# Altium integrated library 7443330820.IntLib: 47 symbols
Pins are listed as number, name and electrical type; pins without a type are passive.

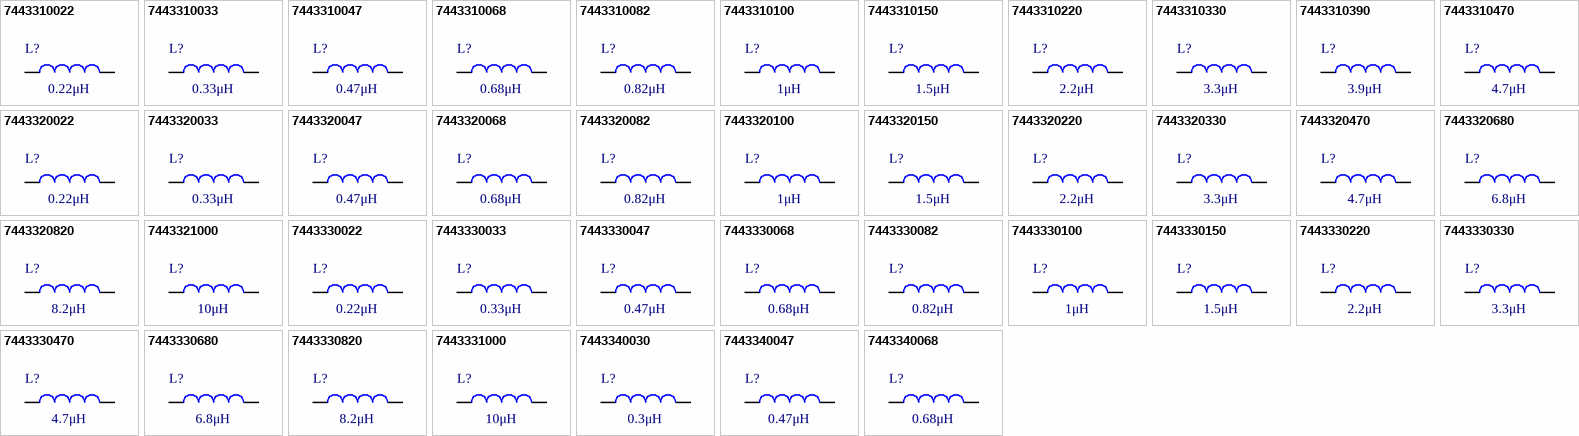
[diagram p0: symbols 7443310022 to 7443340068]

## 7443310022
designator L?, comment 0.22μH
WE-HCC SMT High Current Cube Inductor, size 1210, 0.22μH, 48.2A, 1.5mΩ; Manufacturer Part Number: 7443310022; Manufacturer: Wurth Elektronik; Case/Size Code: 1210; Material: Iron Powder; Rated Inductance: 0.21μH; Saturation Current @ 10%: 49.7A; Saturation Current @ 30%: 177.2A; Self Resonant Frequency: 210MHz; Category: Power Inductors; Match Code: WE-HCC; ComponentLink1Description: Website Link; ComponentLink1URL: https://www.we-online.com/redexpert/article/7443310022?ad; ComponentLink2Description: Datasheet Link; ComponentLink2URL: https://www.we-online.com/redexpert/spec/7443310022?ad; Mount: Surface Mount; Min Operating Temperature: -40°C; Max Operating Temperature: 125°C; Packaging: Tape and Reel; Length: 12.1mm; Width: 11.4mm; Height: 9.5mm; DC Resistance Max: 1.5mΩ; Inductance: 0.22μH; Performance Rated Current: 48.2A
footprint WE-HCC_1210
simulation model 1210_7443310022_0.22u
pins: 1, 2

## 7443310033
designator L?, comment 0.33μH
WE-HCC SMT High Current Cube Inductor, size 1210, 0.33μH, 48.2A, 1.5mΩ; Manufacturer Part Number: 7443310033; Manufacturer: Wurth Elektronik; Case/Size Code: 1210; Material: Iron Powder; Rated Inductance: 0.32μH; Saturation Current @ 10%: 43.6A; Saturation Current @ 30%: 115.4A; Self Resonant Frequency: 190MHz; Category: Power Inductors; Match Code: WE-HCC; ComponentLink1Description: Website Link; ComponentLink1URL: https://www.we-online.com/redexpert/article/7443310033?ad; ComponentLink2Description: Datasheet Link; ComponentLink2URL: https://www.we-online.com/redexpert/spec/7443310033?ad; Mount: Surface Mount; Min Operating Temperature: -40°C; Max Operating Temperature: 125°C; Packaging: Tape and Reel; Length: 12.1mm; Width: 11.4mm; Height: 9.5mm; DC Resistance Max: 1.5mΩ; Inductance: 0.33μH; Performance Rated Current: 48.2A
footprint WE-HCC_1210
simulation model 1210_7443310033_0.33u
pins: 1, 2

## 7443310047
designator L?, comment 0.47μH
WE-HCC SMT High Current Cube Inductor, size 1210, 0.47μH, 40.2A, 1.85mΩ; Manufacturer Part Number: 7443310047; Manufacturer: Wurth Elektronik; Case/Size Code: 1210; Material: Iron Powder; Rated Inductance: 0.46μH; Saturation Current @ 10%: 44.4A; Saturation Current @ 30%: 116.2A; Self Resonant Frequency: 140MHz; Category: Power Inductors; Match Code: WE-HCC; ComponentLink1Description: Website Link; ComponentLink1URL: https://www.we-online.com/redexpert/article/7443310047?ad; ComponentLink2Description: Datasheet Link; ComponentLink2URL: https://www.we-online.com/redexpert/spec/7443310047?ad; Mount: Surface Mount; Min Operating Temperature: -40°C; Max Operating Temperature: 125°C; Packaging: Tape and Reel; Length: 12.1mm; Width: 11.4mm; Height: 9.5mm; DC Resistance Max: 1.85mΩ; Inductance: 0.47μH; Performance Rated Current: 40.2A
footprint WE-HCC_1210
simulation model 1210_7443310047_0.47u
pins: 1, 2

## 7443310068
designator L?, comment 0.68μH
WE-HCC SMT High Current Cube Inductor, size 1210, 0.68μH, 40.2A, 1.85mΩ; Manufacturer Part Number: 7443310068; Manufacturer: Wurth Elektronik; Case/Size Code: 1210; Material: Iron Powder; Rated Inductance: 0.66μH; Saturation Current @ 10%: 39.3A; Saturation Current @ 30%: 63.5A; Self Resonant Frequency: 120MHz; Category: Power Inductors; Match Code: WE-HCC; ComponentLink1Description: Website Link; ComponentLink1URL: https://www.we-online.com/redexpert/article/7443310068?ad; ComponentLink2Description: Datasheet Link; ComponentLink2URL: https://www.we-online.com/redexpert/spec/7443310068?ad; Mount: Surface Mount; Min Operating Temperature: -40°C; Max Operating Temperature: 125°C; Packaging: Tape and Reel; Length: 12.1mm; Width: 11.4mm; Height: 9.5mm; DC Resistance Max: 1.85mΩ; Inductance: 0.68μH; Performance Rated Current: 40.2A
footprint WE-HCC_1210
simulation model 1210_7443310068_0.68u
pins: 1, 2

## 7443310082
designator L?, comment 0.82μH
WE-HCC SMT High Current Cube Inductor, size 1210, 0.82μH, 32.5A, 2.5mΩ; Manufacturer Part Number: 7443310082; Manufacturer: Wurth Elektronik; Case/Size Code: 1210; Material: Iron Powder; Rated Inductance: 0.78μH; Saturation Current @ 10%: 33.8A; Saturation Current @ 30%: 67.8A; Self Resonant Frequency: 100MHz; Category: Power Inductors; Match Code: WE-HCC; ComponentLink1Description: Website Link; ComponentLink1URL: https://www.we-online.com/redexpert/article/7443310082?ad; ComponentLink2Description: Datasheet Link; ComponentLink2URL: https://www.we-online.com/redexpert/spec/7443310082?ad; Mount: Surface Mount; Min Operating Temperature: -40°C; Max Operating Temperature: 125°C; Packaging: Tape and Reel; Length: 12.1mm; Width: 11.4mm; Height: 9.5mm; DC Resistance Max: 2.5mΩ; Inductance: 0.82μH; Performance Rated Current: 32.5A
footprint WE-HCC_1210
simulation model 1210_7443310082_0.82u
pins: 1, 2

## 7443310100
designator L?, comment 1μH
WE-HCC SMT High Current Cube Inductor, size 1210, 1μH, 32.5A, 2.5mΩ; Manufacturer Part Number: 7443310100; Manufacturer: Wurth Elektronik; Case/Size Code: 1210; Material: Iron Powder; Rated Inductance: 0.94μH; Saturation Current @ 10%: 28.5A; Saturation Current @ 30%: 55.1A; Self Resonant Frequency: 100MHz; Category: Power Inductors; Match Code: WE-HCC; ComponentLink1Description: Website Link; ComponentLink1URL: https://www.we-online.com/redexpert/article/7443310100?ad; ComponentLink2Description: Datasheet Link; ComponentLink2URL: https://www.we-online.com/redexpert/spec/7443310100?ad; Mount: Surface Mount; Min Operating Temperature: -40°C; Max Operating Temperature: 125°C; Packaging: Tape and Reel; Length: 12.1mm; Width: 11.4mm; Height: 9.5mm; DC Resistance Max: 2.5mΩ; Inductance: 1μH; Performance Rated Current: 32.5A
footprint WE-HCC_1210
simulation model 1210_7443310100_1u
pins: 1, 2

## 7443310150
designator L?, comment 1.5μH
WE-HCC SMT High Current Cube Inductor, size 1210, 1.5μH, 26.9A, 3.5mΩ; Manufacturer Part Number: 7443310150; Manufacturer: Wurth Elektronik; Case/Size Code: 1210; Material: Iron Powder; Rated Inductance: 1.36μH; Saturation Current @ 10%: 21.9A; Saturation Current @ 30%: 54.5A; Self Resonant Frequency: 120MHz; Category: Power Inductors; Match Code: WE-HCC; ComponentLink1Description: Website Link; ComponentLink1URL: https://www.we-online.com/redexpert/article/7443310150?ad; ComponentLink2Description: Datasheet Link; ComponentLink2URL: https://www.we-online.com/redexpert/spec/7443310150?ad; Mount: Surface Mount; Min Operating Temperature: -40°C; Max Operating Temperature: 125°C; Packaging: Tape and Reel; Length: 12.1mm; Width: 11.4mm; Height: 9.5mm; DC Resistance Max: 3.5mΩ; Inductance: 1.5μH; Performance Rated Current: 26.9A
footprint WE-HCC_1210
simulation model 1210_7443310150_1.5u
pins: 1, 2

## 7443310220
designator L?, comment 2.2μH
WE-HCC SMT High Current Cube Inductor, size 1210, 2.2μH, 22.4A, 4.3mΩ; Manufacturer Part Number: 7443310220; Manufacturer: Wurth Elektronik; Case/Size Code: 1210; Material: Iron Powder; Rated Inductance: 2.1μH; Saturation Current @ 10%: 20.9A; Saturation Current @ 30%: 44A; Self Resonant Frequency: 70MHz; Category: Power Inductors; Match Code: WE-HCC; ComponentLink1Description: Website Link; ComponentLink1URL: https://www.we-online.com/redexpert/article/7443310220?ad; ComponentLink2Description: Datasheet Link; ComponentLink2URL: https://www.we-online.com/redexpert/spec/7443310220?ad; Mount: Surface Mount; Min Operating Temperature: -40°C; Max Operating Temperature: 125°C; Packaging: Tape and Reel; Length: 12.1mm; Width: 11.4mm; Height: 9.5mm; DC Resistance Max: 4.3mΩ; Inductance: 2.2μH; Performance Rated Current: 22.4A
footprint WE-HCC_1210
simulation model 1210_7443310220_2.2u
pins: 1, 2

## 7443310330
designator L?, comment 3.3μH
WE-HCC SMT High Current Cube Inductor, size 1210, 3.3μH, 15.5A, 7.7mΩ; Manufacturer Part Number: 7443310330; Manufacturer: Wurth Elektronik; Case/Size Code: 1210; Material: Iron Powder; Rated Inductance: 3.2μH; Saturation Current @ 10%: 19.2A; Saturation Current @ 30%: 38.9A; Self Resonant Frequency: 50MHz; Category: Power Inductors; Match Code: WE-HCC; ComponentLink1Description: Website Link; ComponentLink1URL: https://www.we-online.com/redexpert/article/7443310330?ad; ComponentLink2Description: Datasheet Link; ComponentLink2URL: https://www.we-online.com/redexpert/spec/7443310330?ad; Mount: Surface Mount; Min Operating Temperature: -40°C; Max Operating Temperature: 125°C; Packaging: Tape and Reel; Length: 12.1mm; Width: 11.4mm; Height: 9.5mm; DC Resistance Max: 7.7mΩ; Inductance: 3.3μH; Performance Rated Current: 15.5A
footprint WE-HCC_1210
simulation model 1210_7443310330_3.3u
pins: 1, 2

## 7443310390
designator L?, comment 3.9μH
WE-HCC SMT High Current Cube Inductor, size 1210, 3.9μH, 12.5A, 11mΩ; Manufacturer Part Number: 7443310390; Manufacturer: Wurth Elektronik; Case/Size Code: 1210; Material: Iron Powder; Rated Inductance: 3.75μH; Saturation Current @ 10%: 16.4A; Saturation Current @ 30%: 35.3A; Self Resonant Frequency: 50MHz; Category: Power Inductors; Match Code: WE-HCC; ComponentLink1Description: Website Link; ComponentLink1URL: https://www.we-online.com/redexpert/article/7443310390?ad; ComponentLink2Description: Datasheet Link; ComponentLink2URL: https://www.we-online.com/redexpert/spec/7443310390?ad; Mount: Surface Mount; Min Operating Temperature: -40°C; Max Operating Temperature: 125°C; Packaging: Tape and Reel; Length: 12.1mm; Width: 11.4mm; Height: 9.5mm; DC Resistance Max: 11mΩ; Inductance: 3.9μH; Performance Rated Current: 12.5A
footprint WE-HCC_1210
simulation model 1210_7443310390_3.9u
pins: 1, 2

## 7443310470
designator L?, comment 4.7μH
WE-HCC SMT High Current Cube Inductor, size 1210, 4.7μH, 12.5A, 11mΩ; Manufacturer Part Number: 7443310470; Manufacturer: Wurth Elektronik; Case/Size Code: 1210; Material: Iron Powder; Rated Inductance: 4.5μH; Saturation Current @ 10%: 17.8A; Saturation Current @ 30%: 35.5A; Self Resonant Frequency: 32MHz; Category: Power Inductors; Match Code: WE-HCC; ComponentLink1Description: Website Link; ComponentLink1URL: https://www.we-online.com/redexpert/article/7443310470?ad; ComponentLink2Description: Datasheet Link; ComponentLink2URL: https://www.we-online.com/redexpert/spec/7443310470?ad; Mount: Surface Mount; Min Operating Temperature: -40°C; Max Operating Temperature: 125°C; Packaging: Tape and Reel; Length: 12.1mm; Width: 11.4mm; Height: 9.5mm; DC Resistance Max: 11mΩ; Inductance: 4.7μH; Performance Rated Current: 12.5A
footprint WE-HCC_1210
simulation model 1210_7443310470_4.7u
pins: 1, 2

## 7443320022
designator L?, comment 0.22μH
WE-HCC SMT High Current Cube Inductor, size 1210, 0.22μH, 48.2A, 1.5mΩ; Manufacturer Part Number: 7443320022; Manufacturer: Wurth Elektronik; Case/Size Code: 1210; Material: Ferrite; Saturation Current @ 10%: 82.9A; Saturation Current @ 30%: 90.8A; Self Resonant Frequency: 280MHz; Category: Power Inductors; Match Code: WE-HCC; ComponentLink1Description: Website Link; ComponentLink1URL: https://www.we-online.com/redexpert/article/7443320022?ad; ComponentLink2Description: Datasheet Link; ComponentLink2URL: https://www.we-online.com/redexpert/spec/7443320022?ad; Mount: Surface Mount; Min Operating Temperature: -40°C; Max Operating Temperature: 125°C; Packaging: Tape and Reel; Length: 12.1mm; Width: 11.4mm; Height: 9.5mm; DC Resistance Max: 1.5mΩ; Inductance: 0.22μH; Performance Rated Current: 48.2A; Rated Inductance: 0.22μH
footprint WE-HCC_1210
simulation model 1210_7443320022_0.22u
pins: 1, 2

## 7443320033
designator L?, comment 0.33μH
WE-HCC SMT High Current Cube Inductor, size 1210, 0.33μH, 48.2A, 1.5mΩ; Manufacturer Part Number: 7443320033; Manufacturer: Wurth Elektronik; Case/Size Code: 1210; Material: Ferrite; Saturation Current @ 10%: 56.7A; Saturation Current @ 30%: 62.1A; Self Resonant Frequency: 214MHz; Category: Power Inductors; Match Code: WE-HCC; ComponentLink1Description: Website Link; ComponentLink1URL: https://www.we-online.com/redexpert/article/7443320033?ad; ComponentLink2Description: Datasheet Link; ComponentLink2URL: https://www.we-online.com/redexpert/spec/7443320033?ad; Mount: Surface Mount; Min Operating Temperature: -40°C; Max Operating Temperature: 125°C; Packaging: Tape and Reel; Length: 12.1mm; Width: 11.4mm; Height: 9.5mm; DC Resistance Max: 1.5mΩ; Inductance: 0.33μH; Performance Rated Current: 48.2A; Rated Inductance: 0.33μH
footprint WE-HCC_1210
simulation model 1210_7443320033_0.33u
pins: 1, 2

## 7443320047
designator L?, comment 0.47μH
WE-HCC SMT High Current Cube Inductor, size 1210, 0.47μH, 40.2A, 1.85mΩ; Manufacturer Part Number: 7443320047; Manufacturer: Wurth Elektronik; Case/Size Code: 1210; Material: Ferrite; Rated Inductance: 0.46μH; Saturation Current @ 10%: 49.9A; Saturation Current @ 30%: 54.7A; Self Resonant Frequency: 138MHz; Category: Power Inductors; Match Code: WE-HCC; ComponentLink1Description: Website Link; ComponentLink1URL: https://www.we-online.com/redexpert/article/7443320047?ad; ComponentLink2Description: Datasheet Link; ComponentLink2URL: https://www.we-online.com/redexpert/spec/7443320047?ad; Mount: Surface Mount; Min Operating Temperature: -40°C; Max Operating Temperature: 125°C; Packaging: Tape and Reel; Length: 12.1mm; Width: 11.4mm; Height: 9.5mm; DC Resistance Max: 1.85mΩ; Inductance: 0.47μH; Performance Rated Current: 40.2A
footprint WE-HCC_1210
simulation model 1210_7443320047_0.47u
pins: 1, 2

## 7443320068
designator L?, comment 0.68μH
WE-HCC SMT High Current Cube Inductor, size 1210, 0.68μH, 40.2A, 1.85mΩ; Manufacturer Part Number: 7443320068; Manufacturer: Wurth Elektronik; Case/Size Code: 1210; Material: Ferrite; Rated Inductance: 0.66μH; Saturation Current @ 10%: 35.8A; Saturation Current @ 30%: 39.1A; Self Resonant Frequency: 108MHz; Category: Power Inductors; Match Code: WE-HCC; ComponentLink1Description: Website Link; ComponentLink1URL: https://www.we-online.com/redexpert/article/7443320068?ad; ComponentLink2Description: Datasheet Link; ComponentLink2URL: https://www.we-online.com/redexpert/spec/7443320068?ad; Mount: Surface Mount; Min Operating Temperature: -40°C; Max Operating Temperature: 125°C; Packaging: Tape and Reel; Length: 12.1mm; Width: 11.4mm; Height: 9.5mm; DC Resistance Max: 1.85mΩ; Inductance: 0.68μH; Performance Rated Current: 40.2A
footprint WE-HCC_1210
simulation model 1210_7443320068_0.68u
pins: 1, 2

## 7443320082
designator L?, comment 0.82μH
WE-HCC SMT High Current Cube Inductor, size 1210, 0.82μH, 34A, 2.5mΩ; Manufacturer Part Number: 7443320082; Manufacturer: Wurth Elektronik; Case/Size Code: 1210; Material: Ferrite; Rated Inductance: 0.8μH; Saturation Current @ 10%: 32.6A; Saturation Current @ 30%: 35.8A; Self Resonant Frequency: 99MHz; Category: Power Inductors; Match Code: WE-HCC; ComponentLink1Description: Website Link; ComponentLink1URL: https://www.we-online.com/redexpert/article/7443320082?ad; ComponentLink2Description: Datasheet Link; ComponentLink2URL: https://www.we-online.com/redexpert/spec/7443320082?ad; Mount: Surface Mount; Min Operating Temperature: -40°C; Max Operating Temperature: 125°C; Packaging: Tape and Reel; Length: 12.1mm; Width: 11.4mm; Height: 9.5mm; DC Resistance Max: 2.5mΩ; Inductance: 0.82μH; Performance Rated Current: 34A
footprint WE-HCC_1210
simulation model 1210_7443320082_0.82u
pins: 1, 2

## 7443320100
designator L?, comment 1μH
WE-HCC SMT High Current Cube Inductor, size 1210, 1μH, 34A, 2.5mΩ; Manufacturer Part Number: 7443320100; Manufacturer: Wurth Elektronik; Case/Size Code: 1210; Material: Ferrite; Rated Inductance: 0.9μH; Saturation Current @ 10%: 30.6A; Saturation Current @ 30%: 33.5A; Self Resonant Frequency: 96MHz; Category: Power Inductors; Match Code: WE-HCC; ComponentLink1Description: Website Link; ComponentLink1URL: https://www.we-online.com/redexpert/article/7443320100?ad; ComponentLink2Description: Datasheet Link; ComponentLink2URL: https://www.we-online.com/redexpert/spec/7443320100?ad; Mount: Surface Mount; Min Operating Temperature: -40°C; Max Operating Temperature: 125°C; Packaging: Tape and Reel; Length: 12.1mm; Width: 11.4mm; Height: 9.5mm; DC Resistance Max: 2.5mΩ; Inductance: 1μH; Performance Rated Current: 34A
footprint WE-HCC_1210
simulation model 1210_7443320100_1u
pins: 1, 2

## 7443320150
designator L?, comment 1.5μH
WE-HCC SMT High Current Cube Inductor, size 1210, 1.5μH, 25.7A, 3.5mΩ; Manufacturer Part Number: 7443320150; Manufacturer: Wurth Elektronik; Case/Size Code: 1210; Material: Ferrite; Rated Inductance: 1.43μH; Saturation Current @ 10%: 26.5A; Saturation Current @ 30%: 29.1A; Self Resonant Frequency: 92MHz; Category: Power Inductors; Match Code: WE-HCC; ComponentLink1Description: Website Link; ComponentLink1URL: https://www.we-online.com/redexpert/article/7443320150?ad; ComponentLink2Description: Datasheet Link; ComponentLink2URL: https://www.we-online.com/redexpert/spec/7443320150?ad; Mount: Surface Mount; Min Operating Temperature: -40°C; Max Operating Temperature: 125°C; Packaging: Tape and Reel; Length: 12.1mm; Width: 11.4mm; Height: 9.5mm; DC Resistance Max: 3.5mΩ; Inductance: 1.5μH; Performance Rated Current: 25.7A
footprint WE-HCC_1210
simulation model 1210_7443320150_1.5u
pins: 1, 2

## 7443320220
designator L?, comment 2.2μH
WE-HCC SMT High Current Cube Inductor, size 1210, 2.2μH, 21.6A, 4.3mΩ; Manufacturer Part Number: 7443320220; Manufacturer: Wurth Elektronik; Case/Size Code: 1210; Material: Ferrite; Rated Inductance: 2μH; Saturation Current @ 10%: 24.8A; Saturation Current @ 30%: 27.2A; Self Resonant Frequency: 64MHz; Category: Power Inductors; Match Code: WE-HCC; ComponentLink1Description: Website Link; ComponentLink1URL: https://www.we-online.com/redexpert/article/7443320220?ad; ComponentLink2Description: Datasheet Link; ComponentLink2URL: https://www.we-online.com/redexpert/spec/7443320220?ad; Mount: Surface Mount; Min Operating Temperature: -40°C; Max Operating Temperature: 125°C; Packaging: Tape and Reel; Length: 12.1mm; Width: 11.4mm; Height: 9.5mm; DC Resistance Max: 4.3mΩ; Inductance: 2.2μH; Performance Rated Current: 21.6A
footprint WE-HCC_1210
simulation model 1210_7443320220_2.2u
pins: 1, 2

## 7443320330
designator L?, comment 3.3μH
WE-HCC SMT High Current Cube Inductor, size 1210, 3.3μH, 18.2A, 5.7mΩ; Manufacturer Part Number: 7443320330; Manufacturer: Wurth Elektronik; Case/Size Code: 1210; Material: Ferrite; Rated Inductance: 2.5μH; Saturation Current @ 10%: 22.4A; Saturation Current @ 30%: 24.7A; Self Resonant Frequency: 44MHz; Category: Power Inductors; Match Code: WE-HCC; ComponentLink1Description: Website Link; ComponentLink1URL: https://www.we-online.com/redexpert/article/7443320330?ad; ComponentLink2Description: Datasheet Link; ComponentLink2URL: https://www.we-online.com/redexpert/spec/7443320330?ad; Mount: Surface Mount; Min Operating Temperature: -40°C; Max Operating Temperature: 125°C; Packaging: Tape and Reel; Length: 12.1mm; Width: 11.4mm; Height: 9.5mm; DC Resistance Max: 5.7mΩ; Inductance: 3.3μH; Performance Rated Current: 18.2A
footprint WE-HCC_1210
simulation model 1210_7443320330_3.3u
pins: 1, 2

## 7443320470
designator L?, comment 4.7μH
WE-HCC SMT High Current Cube Inductor, size 1210, 4.7μH, 14.9A, 7.9mΩ; Manufacturer Part Number: 7443320470; Manufacturer: Wurth Elektronik; Case/Size Code: 1210; Material: Ferrite; Rated Inductance: 3.2μH; Saturation Current @ 10%: 15.6A; Saturation Current @ 30%: 17.1A; Self Resonant Frequency: 43MHz; Category: Power Inductors; Match Code: WE-HCC; ComponentLink1Description: Website Link; ComponentLink1URL: https://www.we-online.com/redexpert/article/7443320470?ad; ComponentLink2Description: Datasheet Link; ComponentLink2URL: https://www.we-online.com/redexpert/spec/7443320470?ad; Mount: Surface Mount; Min Operating Temperature: -40°C; Max Operating Temperature: 125°C; Packaging: Tape and Reel; Length: 12.1mm; Width: 11.4mm; Height: 9.5mm; DC Resistance Max: 7.9mΩ; Inductance: 4.7μH; Performance Rated Current: 14.9A
footprint WE-HCC_1210
simulation model 1210_7443320470_4.7u
pins: 1, 2

## 7443320680
designator L?, comment 6.8μH
WE-HCC SMT High Current Cube Inductor, size 1210, 6.8μH, 12.3A, 11mΩ; Manufacturer Part Number: 7443320680; Manufacturer: Wurth Elektronik; Case/Size Code: 1210; Material: Ferrite; Rated Inductance: 5.5μH; Saturation Current @ 10%: 12.9A; Saturation Current @ 30%: 14.2A; Self Resonant Frequency: 42MHz; Category: Power Inductors; Match Code: WE-HCC; ComponentLink1Description: Website Link; ComponentLink1URL: https://www.we-online.com/redexpert/article/7443320680?ad; ComponentLink2Description: Datasheet Link; ComponentLink2URL: https://www.we-online.com/redexpert/spec/7443320680?ad; Mount: Surface Mount; Min Operating Temperature: -40°C; Max Operating Temperature: 125°C; Packaging: Tape and Reel; Length: 12.1mm; Width: 11.4mm; Height: 9.5mm; DC Resistance Max: 11mΩ; Inductance: 6.8μH; Performance Rated Current: 12.3A
footprint WE-HCC_1210
simulation model 1210_7443320680_6.8u
pins: 1, 2

## 7443320820
designator L?, comment 8.2μH
WE-HCC SMT High Current Cube Inductor, size 1210, 8.2μH, 11.8A, 11.8mΩ; Manufacturer Part Number: 7443320820; Manufacturer: Wurth Elektronik; Case/Size Code: 1210; Material: Ferrite; Rated Inductance: 5.1μH; Saturation Current @ 10%: 12.3A; Saturation Current @ 30%: 13.5A; Self Resonant Frequency: 34MHz; Category: Power Inductors; Match Code: WE-HCC; ComponentLink1Description: Website Link; ComponentLink1URL: https://www.we-online.com/redexpert/article/7443320820?ad; ComponentLink2Description: Datasheet Link; ComponentLink2URL: https://www.we-online.com/redexpert/spec/7443320820?ad; Mount: Surface Mount; Min Operating Temperature: -40°C; Max Operating Temperature: 125°C; Packaging: Tape and Reel; Length: 12.1mm; Width: 11.4mm; Height: 9.5mm; DC Resistance Max: 11.8mΩ; Inductance: 8.2μH; Performance Rated Current: 11.8A
footprint WE-HCC_1210
simulation model 1210_7443320820_8.2u
pins: 1, 2

## 7443321000
designator L?, comment 10μH
WE-HCC SMT High Current Cube Inductor, size 1210, 10μH, 9.6A, 16.7mΩ; Manufacturer Part Number: 7443321000; Manufacturer: Wurth Elektronik; Case/Size Code: 1210; Material: Ferrite; Rated Inductance: 7.5μH; Saturation Current @ 10%: 9.1A; Saturation Current @ 30%: 11.3A; Self Resonant Frequency: 29MHz; Category: Power Inductors; Match Code: WE-HCC; ComponentLink1Description: Website Link; ComponentLink1URL: https://www.we-online.com/redexpert/article/7443321000?ad; ComponentLink2Description: Datasheet Link; ComponentLink2URL: https://www.we-online.com/redexpert/spec/7443321000?ad; Mount: Surface Mount; Min Operating Temperature: -40°C; Max Operating Temperature: 125°C; Packaging: Tape and Reel; Length: 12.1mm; Width: 11.4mm; Height: 9.5mm; DC Resistance Max: 16.7mΩ; Inductance: 10μH; Performance Rated Current: 9.6A
footprint WE-HCC_1210
simulation model 1210_7443321000_10u
pins: 1, 2

## 7443330022
designator L?, comment 0.22μH
WE-HCC SMT High Current Cube Inductor, size 1090, 0.22μH, 35.2A, 1.6mΩ; Manufacturer Part Number: 7443330022; Manufacturer: Wurth Elektronik; Case/Size Code: 1090; Material: Ferrite; Saturation Current @ 10%: 90.5A; Saturation Current @ 30%: 96A; Self Resonant Frequency: 300MHz; Category: Power Inductors; Match Code: WE-HCC; ComponentLink1Description: Website Link; ComponentLink1URL: https://www.we-online.com/redexpert/article/7443330022?ad; ComponentLink2Description: Datasheet Link; ComponentLink2URL: https://www.we-online.com/redexpert/spec/7443330022?ad; Mount: Surface Mount; Min Operating Temperature: -40°C; Max Operating Temperature: 125°C; Packaging: Tape and Reel; Length: 10.9mm; Width: 10mm; Height: 9.3mm; DC Resistance Max: 1.6mΩ; Inductance: 0.22μH; Performance Rated Current: 35.2A; Rated Inductance: 0.22μH
footprint WE-HCC_1090
simulation model 1090_7443330022_0.22u
pins: 1, 2

## 7443330033
designator L?, comment 0.33μH
WE-HCC SMT High Current Cube Inductor, size 1090, 0.33μH, 35.2A, 1.6mΩ; Manufacturer Part Number: 7443330033; Manufacturer: Wurth Elektronik; Case/Size Code: 1090; Material: Ferrite; Saturation Current @ 10%: 51A; Saturation Current @ 30%: 59A; Self Resonant Frequency: 250MHz; Category: Power Inductors; Match Code: WE-HCC; ComponentLink1Description: Website Link; ComponentLink1URL: https://www.we-online.com/redexpert/article/7443330033?ad; ComponentLink2Description: Datasheet Link; ComponentLink2URL: https://www.we-online.com/redexpert/spec/7443330033?ad; Mount: Surface Mount; Min Operating Temperature: -40°C; Max Operating Temperature: 125°C; Packaging: Tape and Reel; Length: 10.9mm; Width: 10mm; Height: 9.3mm; DC Resistance Max: 1.6mΩ; Inductance: 0.33μH; Performance Rated Current: 35.2A; Rated Inductance: 0.33μH
footprint WE-HCC_1090
simulation model 1090_7443330033_0.33u
pins: 1, 2

## 7443330047
designator L?, comment 0.47μH
WE-HCC SMT High Current Cube Inductor, size 1090, 0.47μH, 31.3A, 1.85mΩ; Manufacturer Part Number: 7443330047; Manufacturer: Wurth Elektronik; Case/Size Code: 1090; Material: Ferrite; Saturation Current @ 10%: 46.5A; Saturation Current @ 30%: 54.9A; Self Resonant Frequency: 160MHz; Category: Power Inductors; Match Code: WE-HCC; ComponentLink1Description: Website Link; ComponentLink1URL: https://www.we-online.com/redexpert/article/7443330047?ad; ComponentLink2Description: Datasheet Link; ComponentLink2URL: https://www.we-online.com/redexpert/spec/7443330047?ad; Mount: Surface Mount; Min Operating Temperature: -40°C; Max Operating Temperature: 125°C; Packaging: Tape and Reel; Length: 10.9mm; Width: 10mm; Height: 9.3mm; DC Resistance Max: 1.85mΩ; Inductance: 0.47μH; Performance Rated Current: 31.3A; Rated Inductance: 0.47μH
footprint WE-HCC_1090
simulation model 1090_7443330047_0.47u
pins: 1, 2

## 7443330068
designator L?, comment 0.68μH
WE-HCC SMT High Current Cube Inductor, size 1090, 0.68μH, 27.2A, 2.65mΩ; Manufacturer Part Number: 7443330068; Manufacturer: Wurth Elektronik; Case/Size Code: 1090; Material: Ferrite; Rated Inductance: 0.67μH; Saturation Current @ 10%: 41.4A; Saturation Current @ 30%: 46A; Self Resonant Frequency: 140MHz; Category: Power Inductors; Match Code: WE-HCC; ComponentLink1Description: Website Link; ComponentLink1URL: https://www.we-online.com/redexpert/article/7443330068?ad; ComponentLink2Description: Datasheet Link; ComponentLink2URL: https://www.we-online.com/redexpert/spec/7443330068?ad; Mount: Surface Mount; Min Operating Temperature: -40°C; Max Operating Temperature: 125°C; Packaging: Tape and Reel; Length: 10.9mm; Width: 10mm; Height: 9.3mm; DC Resistance Max: 2.65mΩ; Inductance: 0.68μH; Performance Rated Current: 27.2A
footprint WE-HCC_1090
simulation model 1090_7443330068_0.68u
pins: 1, 2

## 7443330082
designator L?, comment 0.82μH
WE-HCC SMT High Current Cube Inductor, size 1090, 0.82μH, 27.2A, 2.65mΩ; Manufacturer Part Number: 7443330082; Manufacturer: Wurth Elektronik; Case/Size Code: 1090; Material: Ferrite; Rated Inductance: 0.81μH; Saturation Current @ 10%: 36.8A; Saturation Current @ 30%: 41.9A; Self Resonant Frequency: 120MHz; Category: Power Inductors; Match Code: WE-HCC; ComponentLink1Description: Website Link; ComponentLink1URL: https://www.we-online.com/redexpert/article/7443330082?ad; ComponentLink2Description: Datasheet Link; ComponentLink2URL: https://www.we-online.com/redexpert/spec/7443330082?ad; Mount: Surface Mount; Min Operating Temperature: -40°C; Max Operating Temperature: 125°C; Packaging: Tape and Reel; Length: 10.9mm; Width: 10mm; Height: 9.3mm; DC Resistance Max: 2.65mΩ; Inductance: 0.82μH; Performance Rated Current: 27.2A
footprint WE-HCC_1090
simulation model 1090_7443330082_0.82u
pins: 1, 2

## 7443330100
designator L?, comment 1μH
WE-HCC SMT High Current Cube Inductor, size 1090, 1μH, 27.2A, 2.65mΩ; Manufacturer Part Number: 7443330100; Manufacturer: Wurth Elektronik; Case/Size Code: 1090; Material: Ferrite; Rated Inductance: 0.95μH; Saturation Current @ 10%: 26.5A; Saturation Current @ 30%: 31.1A; Self Resonant Frequency: 100MHz; Category: Power Inductors; Match Code: WE-HCC; ComponentLink1Description: Website Link; ComponentLink1URL: https://www.we-online.com/redexpert/article/7443330100?ad; ComponentLink2Description: Datasheet Link; ComponentLink2URL: https://www.we-online.com/redexpert/spec/7443330100?ad; Mount: Surface Mount; Min Operating Temperature: -40°C; Max Operating Temperature: 125°C; Packaging: Tape and Reel; Length: 10.9mm; Width: 10mm; Height: 9.3mm; DC Resistance Max: 2.65mΩ; Inductance: 1μH; Performance Rated Current: 27.2A
footprint WE-HCC_1090
simulation model 1090_7443330100_1u
pins: 1, 2

## 7443330150
designator L?, comment 1.5μH
WE-HCC SMT High Current Cube Inductor, size 1090, 1.5μH, 21.7A, 4mΩ; Manufacturer Part Number: 7443330150; Manufacturer: Wurth Elektronik; Case/Size Code: 1090; Material: Ferrite; Rated Inductance: 1.45μH; Saturation Current @ 10%: 26.8A; Saturation Current @ 30%: 31A; Self Resonant Frequency: 78MHz; Category: Power Inductors; Match Code: WE-HCC; ComponentLink1Description: Website Link; ComponentLink1URL: https://www.we-online.com/redexpert/article/7443330150?ad; ComponentLink2Description: Datasheet Link; ComponentLink2URL: https://www.we-online.com/redexpert/spec/7443330150?ad; Mount: Surface Mount; Min Operating Temperature: -40°C; Max Operating Temperature: 125°C; Packaging: Tape and Reel; Length: 10.9mm; Width: 10mm; Height: 9.3mm; DC Resistance Max: 4mΩ; Inductance: 1.5μH; Performance Rated Current: 21.7A
footprint WE-HCC_1090
simulation model 1090_7443330150_1.5u
pins: 1, 2

## 7443330220
designator L?, comment 2.2μH
WE-HCC SMT High Current Cube Inductor, size 1090, 2.2μH, 17.4A, 4.8mΩ; Manufacturer Part Number: 7443330220; Manufacturer: Wurth Elektronik; Case/Size Code: 1090; Material: Ferrite; Rated Inductance: 2.1μH; Saturation Current @ 10%: 22.5A; Saturation Current @ 30%: 25.6A; Self Resonant Frequency: 80MHz; Category: Power Inductors; Match Code: WE-HCC; ComponentLink1Description: Website Link; ComponentLink1URL: https://www.we-online.com/redexpert/article/7443330220?ad; ComponentLink2Description: Datasheet Link; ComponentLink2URL: https://www.we-online.com/redexpert/spec/7443330220?ad; Mount: Surface Mount; Min Operating Temperature: -40°C; Max Operating Temperature: 125°C; Packaging: Tape and Reel; Length: 10.9mm; Width: 10mm; Height: 9.3mm; DC Resistance Max: 4.8mΩ; Inductance: 2.2μH; Performance Rated Current: 17.4A
footprint WE-HCC_1090
simulation model 1090_7443330220_2.2u
pins: 1, 2

## 7443330330
designator L?, comment 3.3μH
WE-HCC SMT High Current Cube Inductor, size 1090, 3.3μH, 14.1A, 7.15mΩ; Manufacturer Part Number: 7443330330; Manufacturer: Wurth Elektronik; Case/Size Code: 1090; Material: Ferrite; Rated Inductance: 2.6μH; Saturation Current @ 10%: 19.3A; Saturation Current @ 30%: 22.8A; Self Resonant Frequency: 51MHz; Category: Power Inductors; Match Code: WE-HCC; ComponentLink1Description: Website Link; ComponentLink1URL: https://www.we-online.com/redexpert/article/7443330330?ad; ComponentLink2Description: Datasheet Link; ComponentLink2URL: https://www.we-online.com/redexpert/spec/7443330330?ad; Mount: Surface Mount; Min Operating Temperature: -40°C; Max Operating Temperature: 125°C; Packaging: Tape and Reel; Length: 10.9mm; Width: 10mm; Height: 9.3mm; DC Resistance Max: 7.15mΩ; Inductance: 3.3μH; Performance Rated Current: 14.1A
footprint WE-HCC_1090
simulation model 1090_7443330330_3.3u
pins: 1, 2

## 7443330470
designator L?, comment 4.7μH
WE-HCC SMT High Current Cube Inductor, size 1090, 4.7μH, 11.3A, 9.9mΩ; Manufacturer Part Number: 7443330470; Manufacturer: Wurth Elektronik; Case/Size Code: 1090; Material: Ferrite; Rated Inductance: 3.8μH; Saturation Current @ 10%: 15A; Saturation Current @ 30%: 17.9A; Self Resonant Frequency: 49MHz; Category: Power Inductors; Match Code: WE-HCC; ComponentLink1Description: Website Link; ComponentLink1URL: https://www.we-online.com/redexpert/article/7443330470?ad; ComponentLink2Description: Datasheet Link; ComponentLink2URL: https://www.we-online.com/redexpert/spec/7443330470?ad; Mount: Surface Mount; Min Operating Temperature: -40°C; Max Operating Temperature: 125°C; Packaging: Tape and Reel; Length: 10.9mm; Width: 10mm; Height: 9.3mm; DC Resistance Max: 9.9mΩ; Inductance: 4.7μH; Performance Rated Current: 11.3A
footprint WE-HCC_1090
simulation model 1090_7443330470_4.7u
pins: 1, 2

## 7443330680
designator L?, comment 6.8μH
WE-HCC SMT High Current Cube Inductor, size 1090, 6.8μH, 8.9A, 15mΩ; Manufacturer Part Number: 7443330680; Manufacturer: Wurth Elektronik; Case/Size Code: 1090; Material: Ferrite; Rated Inductance: 4.5μH; Saturation Current @ 10%: 12.4A; Saturation Current @ 30%: 16.6A; Self Resonant Frequency: 40MHz; Category: Power Inductors; Match Code: WE-HCC; ComponentLink1Description: Website Link; ComponentLink1URL: https://www.we-online.com/redexpert/article/7443330680?ad; ComponentLink2Description: Datasheet Link; ComponentLink2URL: https://www.we-online.com/redexpert/spec/7443330680?ad; Mount: Surface Mount; Min Operating Temperature: -40°C; Max Operating Temperature: 125°C; Packaging: Tape and Reel; Length: 10.9mm; Width: 10mm; Height: 9.3mm; DC Resistance Max: 15mΩ; Inductance: 6.8μH; Performance Rated Current: 8.9A
footprint WE-HCC_1090
simulation model 1090_7443330680_6.8u
pins: 1, 2

## 7443330820
designator L?, comment 8.2μH
WE-HCC SMT High Current Cube Inductor, size 1090, 8.2μH, 8.9A, 15mΩ; Manufacturer Part Number: 7443330820; Manufacturer: Wurth Elektronik; Case/Size Code: 1090; Material: Ferrite; Rated Inductance: 2.8μH; Saturation Current @ 10%: 9.3A; Saturation Current @ 30%: 12.5A; Self Resonant Frequency: 36MHz; Category: Power Inductors; Match Code: WE-HCC; ComponentLink1Description: Website Link; ComponentLink1URL: https://www.we-online.com/redexpert/article/7443330820?ad; ComponentLink2Description: Datasheet Link; ComponentLink2URL: https://www.we-online.com/redexpert/spec/7443330820?ad; Mount: Surface Mount; Min Operating Temperature: -40°C; Max Operating Temperature: 125°C; Packaging: Tape and Reel; Length: 10.9mm; Width: 10mm; Height: 9.3mm; DC Resistance Max: 15mΩ; Inductance: 8.2μH; Performance Rated Current: 8.9A
footprint WE-HCC_1090
simulation model 1090_7443330820_8.2u
pins: 1, 2

## 7443331000
designator L?, comment 10μH
WE-HCC SMT High Current Cube Inductor, size 1090, 10μH, 6.7A, 23.1mΩ; Manufacturer Part Number: 7443331000; Manufacturer: Wurth Elektronik; Case/Size Code: 1090; Material: Ferrite; Rated Inductance: 5.5μH; Saturation Current @ 10%: 9.4A; Saturation Current @ 30%: 11.7A; Self Resonant Frequency: 35MHz; Category: Power Inductors; Match Code: WE-HCC; ComponentLink1Description: Website Link; ComponentLink1URL: https://www.we-online.com/redexpert/article/7443331000?ad; ComponentLink2Description: Datasheet Link; ComponentLink2URL: https://www.we-online.com/redexpert/spec/7443331000?ad; Mount: Surface Mount; Min Operating Temperature: -40°C; Max Operating Temperature: 125°C; Packaging: Tape and Reel; Length: 10.9mm; Width: 10mm; Height: 9.3mm; DC Resistance Max: 23.1mΩ; Inductance: 10μH; Performance Rated Current: 6.7A
footprint WE-HCC_1090
simulation model 1090_7443331000_10u
pins: 1, 2

## 7443340030
designator L?, comment 0.3μH
WE-HCC SMT High Current Cube Inductor, size 8070, 0.3μH, 25.5A, 2.7mΩ; Manufacturer Part Number: 7443340030; Manufacturer: Wurth Elektronik; Case/Size Code: 8070; Material: Ferrite; Saturation Current @ 10%: 35.4A; Saturation Current @ 30%: 40.3A; Self Resonant Frequency: 272MHz; Category: Power Inductors; Match Code: WE-HCC; ComponentLink1Description: Website Link; ComponentLink1URL: https://www.we-online.com/redexpert/article/7443340030?ad; ComponentLink2Description: Datasheet Link; ComponentLink2URL: https://www.we-online.com/redexpert/spec/7443340030?ad; Mount: Surface Mount; Min Operating Temperature: -40°C; Max Operating Temperature: 125°C; Packaging: Tape and Reel; Length: 8.4mm; Width: 7.9mm; Height: 7.2mm; DC Resistance Max: 2.7mΩ; Inductance: 0.3μH; Performance Rated Current: 25.5A; Rated Inductance: 0.3μH
footprint WE-HCC_8070
simulation model 8070_7443340030_0.3u
pins: 1, 2

## 7443340047
designator L?, comment 0.47μH
WE-HCC SMT High Current Cube Inductor, size 8070, 0.47μH, 22.5A, 3.1mΩ; Manufacturer Part Number: 7443340047; Manufacturer: Wurth Elektronik; Case/Size Code: 8070; Material: Ferrite; Saturation Current @ 10%: 28.5A; Saturation Current @ 30%: 31.3A; Self Resonant Frequency: 232MHz; Category: Power Inductors; Match Code: WE-HCC; ComponentLink1Description: Website Link; ComponentLink1URL: https://www.we-online.com/redexpert/article/7443340047?ad; ComponentLink2Description: Datasheet Link; ComponentLink2URL: https://www.we-online.com/redexpert/spec/7443340047?ad; Mount: Surface Mount; Min Operating Temperature: -40°C; Max Operating Temperature: 125°C; Packaging: Tape and Reel; Length: 8.4mm; Width: 7.9mm; Height: 7.2mm; DC Resistance Max: 3.1mΩ; Inductance: 0.47μH; Performance Rated Current: 22.5A; Rated Inductance: 0.47μH
footprint WE-HCC_8070
simulation model 8070_7443340047_0.47u
pins: 1, 2

## 7443340068
designator L?, comment 0.68μH
WE-HCC SMT High Current Cube Inductor, size 8070, 0.68μH, 22.5A, 3.1mΩ; Manufacturer Part Number: 7443340068; Manufacturer: Wurth Elektronik; Case/Size Code: 8070; Material: Ferrite; Rated Inductance: 0.64μH; Saturation Current @ 10%: 21.2A; Saturation Current @ 30%: 23A; Self Resonant Frequency: 181MHz; Category: Power Inductors; Match Code: WE-HCC; ComponentLink1Description: Website Link; ComponentLink1URL: https://www.we-online.com/redexpert/article/7443340068?ad; ComponentLink2Description: Datasheet Link; ComponentLink2URL: https://www.we-online.com/redexpert/spec/7443340068?ad; Mount: Surface Mount; Min Operating Temperature: -40°C; Max Operating Temperature: 125°C; Packaging: Tape and Reel; Length: 8.4mm; Width: 7.9mm; Height: 7.2mm; DC Resistance Max: 3.1mΩ; Inductance: 0.68μH; Performance Rated Current: 22.5A
footprint WE-HCC_8070
simulation model 8070_7443340068_0.68u
pins: 1, 2

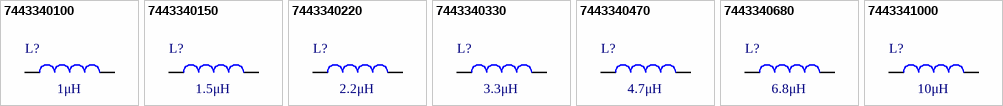
[diagram p1: symbols 7443340100 to 7443341000]

## 7443340100
designator L?, comment 1μH
WE-HCC SMT High Current Cube Inductor, size 8070, 1μH, 18.8A, 3.9mΩ; Manufacturer Part Number: 7443340100; Manufacturer: Wurth Elektronik; Case/Size Code: 8070; Material: Ferrite; Rated Inductance: 0.97μH; Saturation Current @ 10%: 22.9A; Saturation Current @ 30%: 25.1A; Self Resonant Frequency: 147MHz; Category: Power Inductors; Match Code: WE-HCC; ComponentLink1Description: Website Link; ComponentLink1URL: https://www.we-online.com/redexpert/article/7443340100?ad; ComponentLink2Description: Datasheet Link; ComponentLink2URL: https://www.we-online.com/redexpert/spec/7443340100?ad; Mount: Surface Mount; Min Operating Temperature: -40°C; Max Operating Temperature: 125°C; Packaging: Tape and Reel; Length: 8.4mm; Width: 7.9mm; Height: 7.2mm; DC Resistance Max: 3.9mΩ; Inductance: 1μH; Performance Rated Current: 18.8A
footprint WE-HCC_8070
simulation model 8070_7443340100_1u
pins: 1, 2

## 7443340150
designator L?, comment 1.5μH
WE-HCC SMT High Current Cube Inductor, size 8070, 1.5μH, 14.8A, 5.6mΩ; Manufacturer Part Number: 7443340150; Manufacturer: Wurth Elektronik; Case/Size Code: 8070; Material: Ferrite; Rated Inductance: 1.4μH; Saturation Current @ 10%: 16.4A; Saturation Current @ 30%: 18.5A; Self Resonant Frequency: 120MHz; Category: Power Inductors; Match Code: WE-HCC; ComponentLink1Description: Website Link; ComponentLink1URL: https://www.we-online.com/redexpert/article/7443340150?ad; ComponentLink2Description: Datasheet Link; ComponentLink2URL: https://www.we-online.com/redexpert/spec/7443340150?ad; Mount: Surface Mount; Min Operating Temperature: -40°C; Max Operating Temperature: 125°C; Packaging: Tape and Reel; Length: 8.4mm; Width: 7.9mm; Height: 7.2mm; DC Resistance Max: 5.6mΩ; Inductance: 1.5μH; Performance Rated Current: 14.8A
footprint WE-HCC_8070
simulation model 8070_7443340150_1.5u
pins: 1, 2

## 7443340220
designator L?, comment 2.2μH
WE-HCC SMT High Current Cube Inductor, size 8070, 2.2μH, 14.8A, 5.6mΩ; Manufacturer Part Number: 7443340220; Manufacturer: Wurth Elektronik; Case/Size Code: 8070; Material: Ferrite; Rated Inductance: 1.4μH; Saturation Current @ 10%: 11.3A; Saturation Current @ 30%: 12.9A; Self Resonant Frequency: 97MHz; Category: Power Inductors; Match Code: WE-HCC; ComponentLink1Description: Website Link; ComponentLink1URL: https://www.we-online.com/redexpert/article/7443340220?ad; ComponentLink2Description: Datasheet Link; ComponentLink2URL: https://www.we-online.com/redexpert/spec/7443340220?ad; Mount: Surface Mount; Min Operating Temperature: -40°C; Max Operating Temperature: 125°C; Packaging: Tape and Reel; Length: 8.4mm; Width: 7.9mm; Height: 7.2mm; DC Resistance Max: 5.6mΩ; Inductance: 2.2μH; Performance Rated Current: 14.8A
footprint WE-HCC_8070
simulation model 8070_7443340220_2.2u
pins: 1, 2

## 7443340330
designator L?, comment 3.3μH
WE-HCC SMT High Current Cube Inductor, size 8070, 3.3μH, 12.3A, 8.2mΩ; Manufacturer Part Number: 7443340330; Manufacturer: Wurth Elektronik; Case/Size Code: 8070; Material: Ferrite; Rated Inductance: 1.55μH; Saturation Current @ 10%: 8.4A; Saturation Current @ 30%: 10.8A; Self Resonant Frequency: 81MHz; Category: Power Inductors; Match Code: WE-HCC; ComponentLink1Description: Website Link; ComponentLink1URL: https://www.we-online.com/redexpert/article/7443340330?ad; ComponentLink2Description: Datasheet Link; ComponentLink2URL: https://www.we-online.com/redexpert/spec/7443340330?ad; Mount: Surface Mount; Min Operating Temperature: -40°C; Max Operating Temperature: 125°C; Packaging: Tape and Reel; Length: 8.4mm; Width: 7.9mm; Height: 7.2mm; DC Resistance Max: 8.2mΩ; Inductance: 3.3μH; Performance Rated Current: 12.3A
footprint WE-HCC_8070
simulation model 8070_7443340330_3.3u
pins: 1, 2

## 7443340470
designator L?, comment 4.7μH
WE-HCC SMT High Current Cube Inductor, size 8070, 4.7μH, 8.9A, 13.5mΩ; Manufacturer Part Number: 7443340470; Manufacturer: Wurth Elektronik; Case/Size Code: 8070; Material: Ferrite; Rated Inductance: 3.5μH; Saturation Current @ 10%: 7.7A; Saturation Current @ 30%: 9.5A; Self Resonant Frequency: 45MHz; Category: Power Inductors; Match Code: WE-HCC; ComponentLink1Description: Website Link; ComponentLink1URL: https://www.we-online.com/redexpert/article/7443340470?ad; ComponentLink2Description: Datasheet Link; ComponentLink2URL: https://www.we-online.com/redexpert/spec/7443340470?ad; Mount: Surface Mount; Min Operating Temperature: -40°C; Max Operating Temperature: 125°C; Packaging: Tape and Reel; Length: 8.4mm; Width: 7.9mm; Height: 7.2mm; DC Resistance Max: 13.5mΩ; Inductance: 4.7μH; Performance Rated Current: 8.9A
footprint WE-HCC_8070
simulation model 8070_7443340470_4.7u
pins: 1, 2

## 7443340680
designator L?, comment 6.8μH
WE-HCC SMT High Current Cube Inductor, size 8070, 6.8μH, 6.2A, 24mΩ; Manufacturer Part Number: 7443340680; Manufacturer: Wurth Elektronik; Case/Size Code: 8070; Material: Ferrite; Rated Inductance: 6.5μH; Saturation Current @ 10%: 7.4A; Saturation Current @ 30%: 8.3A; Self Resonant Frequency: 37MHz; Category: Power Inductors; Match Code: WE-HCC; ComponentLink1Description: Website Link; ComponentLink1URL: https://www.we-online.com/redexpert/article/7443340680?ad; ComponentLink2Description: Datasheet Link; ComponentLink2URL: https://www.we-online.com/redexpert/spec/7443340680?ad; Mount: Surface Mount; Min Operating Temperature: -40°C; Max Operating Temperature: 125°C; Packaging: Tape and Reel; Length: 8.4mm; Width: 7.9mm; Height: 7.2mm; DC Resistance Max: 24mΩ; Inductance: 6.8μH; Performance Rated Current: 6.2A
footprint WE-HCC_8070
simulation model 8070_7443340680_6.8u
pins: 1, 2

## 7443341000
designator L?, comment 10μH
WE-HCC SMT High Current Cube Inductor, size 8070, 10μH, 4.4A, 41mΩ; Manufacturer Part Number: 7443341000; Manufacturer: Wurth Elektronik; Case/Size Code: 8070; Material: Ferrite; Rated Inductance: 9.8μH; Saturation Current @ 10%: 7.1A; Saturation Current @ 30%: 8.3A; Self Resonant Frequency: 29MHz; Category: Power Inductors; Match Code: WE-HCC; ComponentLink1Description: Website Link; ComponentLink1URL: https://www.we-online.com/redexpert/article/7443341000?ad; ComponentLink2Description: Datasheet Link; ComponentLink2URL: https://www.we-online.com/redexpert/spec/7443341000?ad; Mount: Surface Mount; Min Operating Temperature: -40°C; Max Operating Temperature: 125°C; Packaging: Tape and Reel; Length: 8.4mm; Width: 7.9mm; Height: 7.2mm; DC Resistance Max: 41mΩ; Inductance: 10μH; Performance Rated Current: 4.4A
footprint WE-HCC_8070
simulation model 8070_7443341000_10u
pins: 1, 2